# EAGLE library part LTC2440 (library bschulz)
Linear Technology ADC, 24 bit, 3.5ksps, SPI
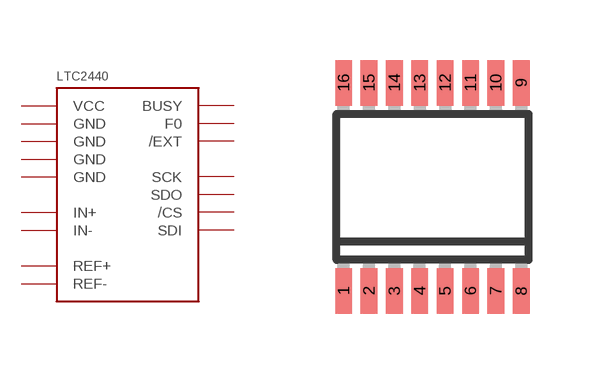
[diagram p14: symbol with the pads of SSOP16; footprint SSOP16]

Designator prefix -

## LTC2440  [SSOP16]
1  GND
2  VCC
3  REF+
4  REF-
5  IN+
6  IN-
7  SDI
8  GND
9  GND
10  /EXT
11  /CS
12  SDO
13  SCK
14  F0
15  BUSY
16  GND

## Footprint SSOP16 (pad centres in mm)
GN Package 16-Lead Plastic SSOP (Narrow .150 Inch) Source: http://cds.linear.com/docs/Datasheet/623012fb.pdf
smd 0.419 x 1.143: 1 -2.223,-2.6; 2 -1.587,-2.6; 3 -0.953,-2.6; 4 -0.318,-2.6; 5 0.318,-2.6; 6 0.953,-2.6; 7 1.587,-2.6; 8 2.223,-2.6; 9 2.223,2.6; 10 1.587,2.6; 11 0.953,2.6; 12 0.318,2.6; 13 -0.318,2.6; 14 -0.953,2.6; 15 -1.587,2.6; 16 -2.223,2.6